# Altium integrated library BSS84W-7-F.IntLib: 1 symbol
Pins are listed as number, name and electrical type; pins without a type are passive.

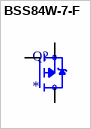
[diagram p0: symbol BSS84W-7-F]

## BSS84W-7-F
designator Q?
P-Channel 50 V 130mA (Ta) 200mW (Ta) Surface Mount SOT-323; MP: BSS84W-7-F; MF: Diodes Inc.; SnapEDA_Link: https://www.snapeda.com/parts/BSS84W-7-F/Diodes+Inc./view-part/?ref=snap; Availability: In Stock; Check_prices: https://www.snapeda.com/parts/BSS84W-7-F/Diodes+Inc./view-part/?ref=eda; Price: None; Purchase-URL: https://pricing.snapeda.com/search/part/BSS84W-7-F/?ref=eda; Package: SOT-323 Diodes Inc.; Value: *
footprint SOT65P222X110-3N
pins: 1 G, 2 S, 3 D